# Altium footprint library AltiumDesigner.PcbLib: 151 footprints (part 3 of 10)
Each footprint in its own frame and in the unit in brackets; x right, y up, seen from the top. Pads: shape width x height; smd on the part's side, far side on the other; paste and mask are expansions set on the pad; w line width, h text height; cw(c..) or ccw(c..) is an arc to the next point about the centre after c.
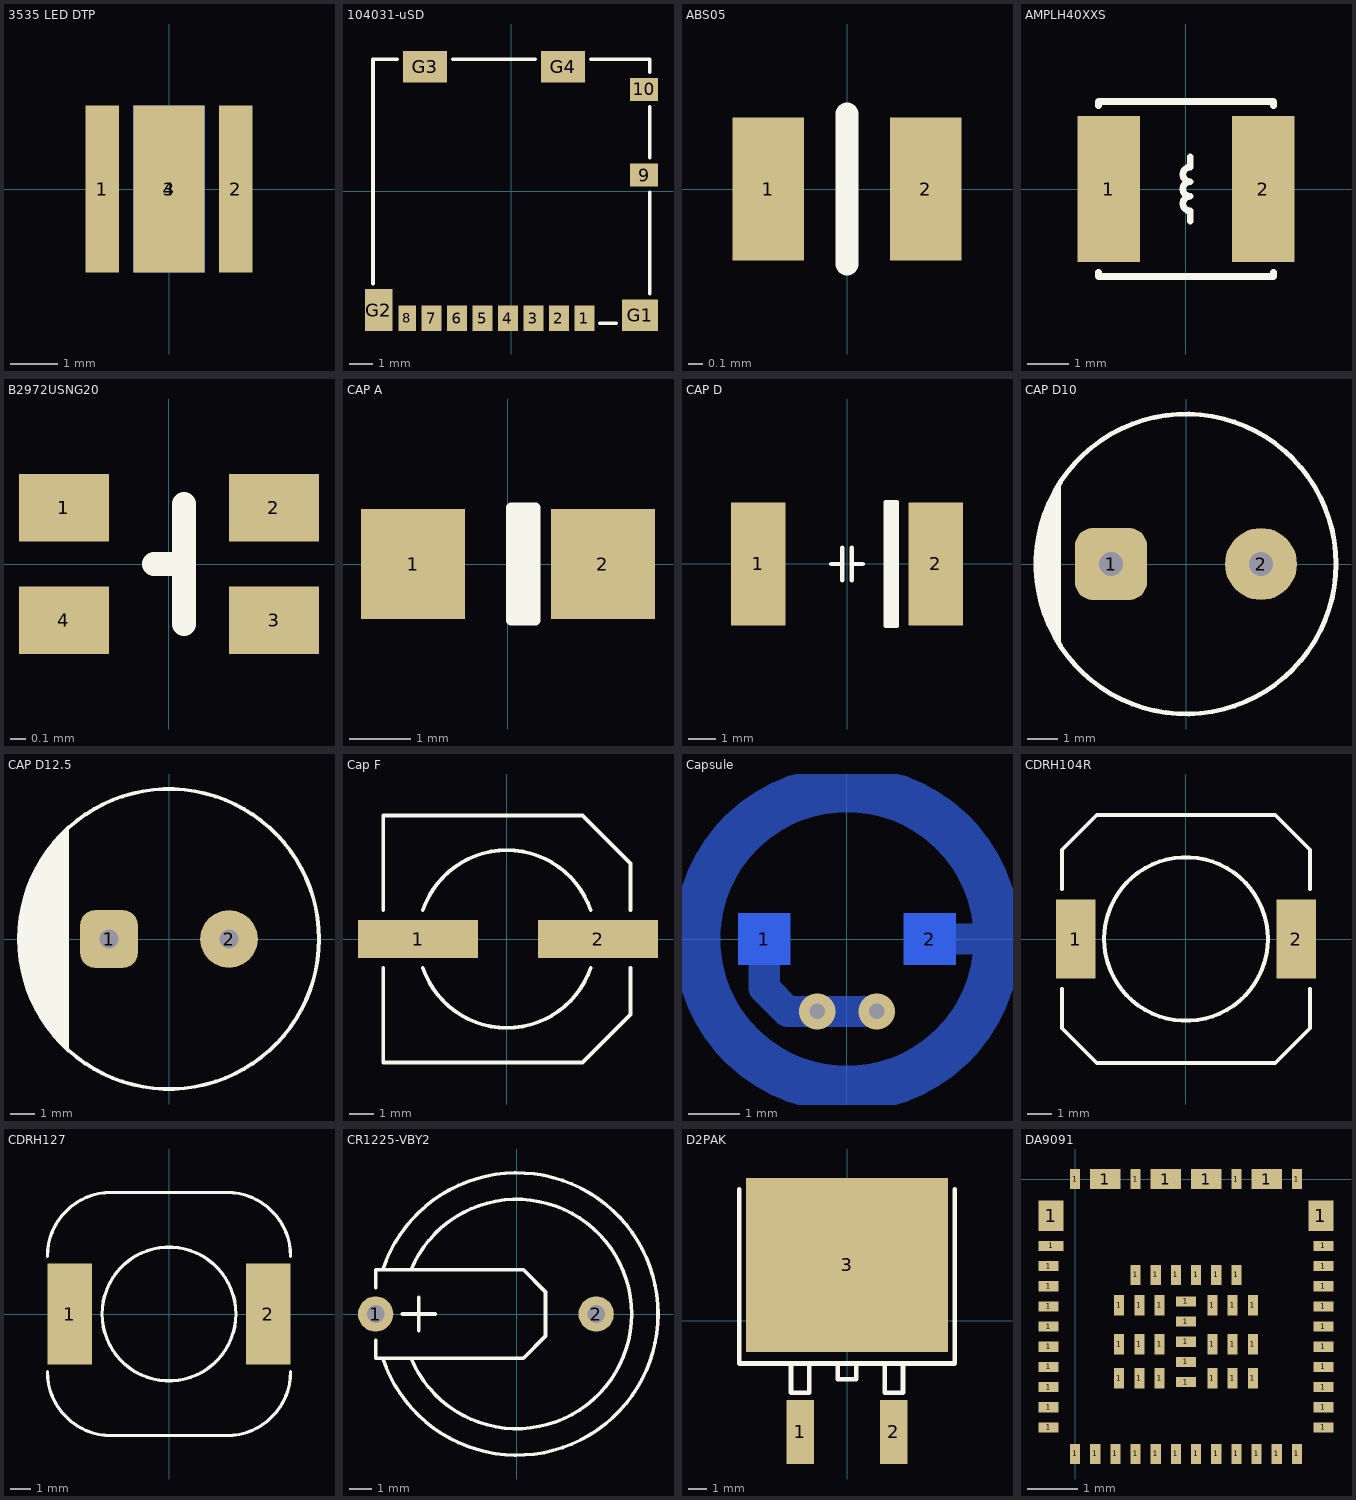
[diagram p2: the footprints below, top view; thin cyan lines are the x and y axes]

## 3535 LED DTP [mm]
pads (4):
  rect 0.7x3.5 smd: 1(-1.4,0) 2(1.4,0)
  rect 1.5x3.5 smd: 3(0,0)
  rect 1.5x3.5 smd far side: 4(0,0)

## 104031-uSD [mm]
pads (14):
  rect 0.85x1.1 smd: 1(3.15,-5.475) 2(2.05,-5.475) 3(0.95,-5.475) 4(-0.15,-5.475) 5(-1.25,-5.475) 6(-2.35,-5.475) 7(-3.45,-5.475)
  rect 0.75x1.1 smd: 8(-4.5,-5.475)
  rect 1.2x1 smd: 9(5.725,0.7) 10(5.725,4.4)
  rect 1.55x1.35 smd: G1(5.55,-5.35)
  rect 1.2x1.8 smd: G2(-5.725,-5.125)
  rect 1.9x1.35 smd: G3(-3.725,5.375) G4(2.225,5.375)
Top Overlay:
  lines w0.16: -5.975,-3.975 -5.975,5.7 -4.925,5.7 ; -2.525,5.7 1.025,5.7 ; 3.425,5.7 5.975,5.7 5.975,5.15 ; 3.825,-5.7 4.525,-5.7 ; 5.975,-4.425 5.975,-0.05 ; 5.975,1.45 5.975,3.65

## ABS05 [mm]
pads (2):
  rect 0.5x1 smd paste-1: 1(-0.55,0) 2(0.55,0)
Top Overlay:
  lines w0.16: 0,-0.525 0,0.525
Top Paste:
  rectangle: -0.775,-0.475 -0.325,0.475
  rectangle: 0.325,-0.475 0.775,0.475

## AMPLH40XXS [mm] "Bourns SRP40XXFA"
pads (2):
  rect 1.5x3.5 smd: 1(-1.85,0) 2(1.85,0)
Top Overlay:
  lines w0.16: -2.1,-2 -2.1,-2.1 2.1,-2.1 2.1,-2 ; -2.1,2 -2.1,2.1 2.1,2.1 2.1,2 ; 0.1,-0.775 0.1,-0.525 cw(c0.1,-0.35) 0.1,-0.175 cw(c0.1,0) 0.1,0.175 cw(c0.1,0.35) 0.1,0.525 0.1,0.775

## B2972USNG20 [mm]
pads (4):
  rect 0.6x0.45 smd paste-1: 1(-0.7,0.375) 2(0.7,0.375) 3(0.7,-0.375) 4(-0.7,-0.375)
Top Overlay:
  lines w0.16: -0.1,0 0.1,0 ; 0.1,-0.4 0.1,0.4
Top Paste:
  region: -0.45,0.2 -0.45,0.55 -0.95,0.55 -0.95,0.2
  region: 0.95,0.2 0.95,0.55 0.45,0.55 0.45,0.2
  region: 0.95,-0.55 0.95,-0.2 0.45,-0.2 0.45,-0.55
  region: -0.45,-0.55 -0.45,-0.2 -0.95,-0.2 -0.95,-0.55

## CAP A [mm]
pads (2):
  rect 1.7x1.8 smd: 1(-1.55,0) 2(1.55,0)
Top Overlay:
  lines w0.16: 0.15,-0.925 0.15,0.925 ; 0.25,-0.925 0.25,0.925 ; 0.35,-0.925 0.35,0.925 ; 0.05,-0.925 0.05,0.925 0.45,0.925 0.45,-0.925 0.05,-0.925

## CAP D [mm]
pads (2):
  rect 2x4.5 smd: 1(-3.25,0) 2(3.25,0)
Top Overlay:
  lines w0.16: -0.575,0 -0.175,0 ; -0.175,-0.6 -0.175,0.6 ; 0.175,-0.6 0.175,0.6 ; 0.175,0 0.575,0 ; 1.525,-2.275 1.525,2.275 ; 1.625,-2.275 1.625,2.275 ; 1.725,-2.275 1.725,2.275 ; 1.425,-2.275 1.425,2.275 1.825,2.275 1.825,-2.275 1.425,-2.275

## CAP D10 [mm]
pads (2):
  rrect50% 2.4x2.4 hole 0.8 paste-2539.97: 1(-2.5,0)
  round 2.4 hole 0.8 paste-2539.97: 2(2.5,0)
Top Overlay:
  circle w0.16: c0,0 r5
  lines w0.16: -4.85,-1.15 -4.85,1.15 ; -4.7,-1.65 -4.7,1.65 ; -4.55,-2.025 -4.55,2.025 ; -4.4,-2.325 -4.4,2.325 ; -4.25,-2.6 -4.25,2.6

## CAP D12.5 [mm]
pads (2):
  rrect50% 2.4x2.4 hole 0.8 paste-2539.97: 1(-2.5,0)
  round 2.4 hole 0.8 paste-2539.97: 2(2.5,0)
Top Overlay:
  circle w0.16: c0,0 r6.25
  lines w0.16: -6.15,-1.05 -6.15,1.05 ; -6.05,-1.525 -6.05,1.525 ; -5.9,-2.025 -5.9,2.025 ; -5.75,-2.425 -5.75,2.425 ; -5.6,-2.75 -5.6,2.75 ; -5.45,-3.025 -5.45,3.025 ; -5.3,-3.275 -5.3,3.275 ; -5.15,-3.525 -5.15,3.525 ; -5,-3.725 -5,3.725 ; -4.85,-3.925 -4.85,3.925 ; -4.7,-4.1 -4.7,4.1 ; -4.55,-4.275 -4.55,4.275 ; -4.4,-4.425 -4.4,4.425 ; -4.25,-4.575 -4.25,4.575

## Cap F [mm]
pads (2):
  rect 5x1.6 smd: 1(-3.7,0) 2(3.8,0)
Top Overlay:
  lines w0.16: -5.15,-1.2 -5.15,-5.15 3.15,-5.15 5.15,-3.15 5.15,-1.2 ; -5.15,1.2 -5.15,5.15 3.15,5.15 5.15,3.15 5.15,1.2 ; -3.5,-1.2 ccw(c0,0) 3.5,-1.2 ; -3.5,1.2 cw(c0,0) 3.5,1.2

## Capsule [mm]
pads (2):
  rect 1x1 smd far side paste-1 mask+0.102: 1(-1.6,0) 2(1.6,0)
via 0.575,-1.4 diameter 0.7 hole 0.3
via -0.575,-1.4 diameter 0.7 hole 0.3
Bottom Layer:
  circle w0.9: c0,0 r2.9
  lines w0.6: -1.6,0 -1.6,-0.95 -1.15,-1.4 -0.575,-1.4 0.575,-1.4 ; 1.6,0 2.8,0
Bottom Overlay:
  lines w0.16: -0.8,-0.525 0.8,-0.525 ; -0.8,0.525 0.8,0.525

## CDRH104R [mm]
pads (2):
  rect 1.6x3.2 smd: 1(-4.45,0) 2(4.45,0)
Top Overlay:
  circle w0.16: c0,0 r3.3
  lines w0.16: -5,-2.025 -5,-3.6 -3.6,-5 3.6,-5 5,-3.6 5,-2.025 ; -5,2.025 -5,3.6 -3.6,5 3.6,5 5,3.6 5,2.025

## CDRH127 [mm]
pads (2):
  rect 2.2x5 smd: 1(-4.9,0) 2(4.9,0)
Top Overlay:
  circle w0.16: c0,0 r3.3
  lines w0.16: -6,-2.85 ccw(c-2.85,-2.85) -2.85,-6 2.85,-6 ccw(c2.85,-2.85) 6,-2.85 ; -6,2.85 cw(c-2.85,2.85) -2.85,6 2.85,6 cw(c2.85,2.85) 6,2.85

## CR1225-VBY2 [mm]
pads (2):
  round 1.6 hole 0.8: 1(-6.4,0) 2(3.6,0)
Top Overlay:
  lines w0.16: -6.4,-1.2 -6.4,-2 0.3,-2 1.3,-1 1.3,1 0.3,2 -6.4,2 -6.4,1.2 ; -6.078,-2.004 ccw(c0,0) -6.078,2.003 ; -5.2,0 -3.7,0 ; -4.799,-2.003 ccw(c0,0) -4.799,2.003 ; -4.45,-0.75 -4.45,0.75

## D2PAK [mm]
pads (3):
  rect 1.5x3.5 smd: 1(-2.55,-6.05) 2(2.55,-6.05)
  rect 11x9.5 smd: 3(0,3.05)
Top Overlay:
  lines w0.254: -5.875,7.175 -5.875,-2.325 5.875,-2.325 5.875,7.175 ; -3.05,-2.325 -3.05,-3.925 -2.05,-3.925 -2.05,-2.325 ; -0.5,-2.325 -0.5,-3.175 0.5,-3.175 0.5,-2.325 ; 2.05,-2.325 2.05,-3.925 3.05,-3.925 3.05,-2.325

## DA9091 [mm]
pads (71):
  rect 0.4x0.2 smd: 1(-0.525,-4.925) 1(-0.525,-4.525) 1(-0.525,-4.125) 1(-0.525,-3.725) 1(-0.525,-3.325) 1(-0.525,-2.925) 1(-0.525,-2.525) 1(-0.525,-2.125) 1(-0.525,-1.725) 1(2.2,-4.025) 1(2.2,-3.625) 1(2.2,-3.225) 1(2.2,-2.825) 1(2.2,-2.425) 1(4.925,-4.925) 1(4.925,-4.525) 1(4.925,-4.125) 1(4.925,-3.725) 1(4.925,-3.325) 1(4.925,-2.925) 1(4.925,-2.525) 1(4.925,-2.125) 1(4.925,-1.725) 1(4.925,-1.325)
  rect 0.5x0.2 smd: 1(-0.475,-1.325)
  rect 0.5x0.6 smd: 1(-0.475,-0.725) 1(4.875,-0.725)
  rect 0.2x0.4 smd: 1(0,-5.45) 1(0,0) 1(0.4,-5.45) 1(0.8,-5.45) 1(0.875,-3.95) 1(0.875,-3.275) 1(0.875,-2.5) 1(1.2,-5.45) 1(1.2,0) 1(1.2,-1.9) 1(1.275,-3.95) 1(1.275,-3.275) 1(1.275,-2.5) 1(1.6,-5.45) 1(1.6,-1.9) 1(1.675,-3.95) 1(1.675,-3.275) 1(1.675,-2.5) 1(2,-5.45) 1(2,-1.9) 1(2.4,-5.45) 1(2.4,-1.9) 1(2.725,-3.95) 1(2.725,-3.275) 1(2.725,-2.5) 1(2.8,-5.45) 1(2.8,-1.9) 1(3.125,-3.95) 1(3.125,-3.275) 1(3.125,-2.5) 1(3.2,-5.45) 1(3.2,-1.9) 1(3.2,0) 1(3.525,-3.95) 1(3.525,-3.275) 1(3.525,-2.5) 1(3.6,-5.45) 1(4,-5.45) 1(4.4,-5.45) 1(4.4,0)
  rect 0.6x0.4 smd: 1(0.6,0) 1(1.8,0) 1(2.6,0) 1(3.8,0)